# EAGLE library part LT1763 (library MDB_HOMEBAK)
500mA, Low Noise, LDO Micropower Regulators Source: http://cds.linear.com/docs/Datasheet/1763ff.pdf
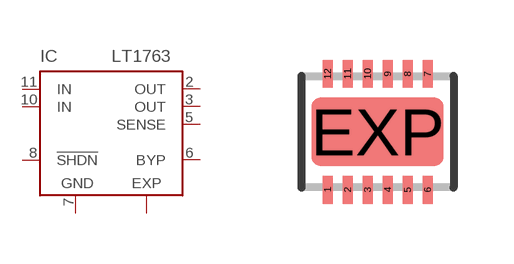
[diagram p25: symbol with the pads of DFN12; footprint DFN12]

Designator prefix IC

## LT1763CDE (MPN: LT1763CDE; OC_FARNELL: 1273613; OC_NEWARK: 57M6014), LT1763CDE-1.5 (MPN: LT1763CDE-1.5; OC_FARNELL: unknown; OC_NEWARK: 57M6015), LT1763CDE-1.8 (MPN: LT1763CDE-1.8; OC_FARNELL: unknown; OC_NEWARK: 57M6019), LT1763CDE-2.5 (MPN: LT1763CDE-2.5; OC_FARNELL: unknown; OC_NEWARK: 57M6023), LT1763CDE-3 (MPN: LT1763CDE-3; OC_FARNELL: unknown; OC_NEWARK: 57M6027), LT1763CDE-3.3 (MPN: LT1763CDE-3.3; OC_FARNELL: unknown; OC_NEWARK: 57M6028), LT1763CDE-5 (MPN: LT1763CDE-5; OC_FARNELL: 1556468; OC_NEWARK: 57M6035), LT1763IDE (MPN: LT1763IDE#PBF; OC_FARNELL: 1839216; OC_NEWARK: 51R1532), LT1763IDE-1.5 (MPN: LT1763IDE-1.5#PBF; OC_FARNELL: 1783317; OC_NEWARK: 51R1526), LT1763IDE-1.8 (MPN: LT1763IDE-1.8#PBF; OC_FARNELL: 1783318; OC_NEWARK: 51R1527), LT1763IDE-2.5 (MPN: LT1763IDE-2.5#PBF; OC_FARNELL: 1783319; OC_NEWARK: 51R1528), LT1763IDE-3 (MPN: LT1763IDE-3#PBF; OC_FARNELL: 1839220; OC_NEWARK: 51R1530), LT1763IDE-3.3 (MPN: LT1763IDE-3.3#PBF; OC_FARNELL: 1783320; OC_NEWARK: 51R1529), LT1763IDE-5 (MPN: LT1763IDE-5#PBF; OC_FARNELL: 1839222; OC_NEWARK: 51R1531)  [DFN12]
2  OUT  pas
3  OUT  pas
5  SENSE  in
6  BYP  in
7  GND  pwr
8  !SHDN  in
10  IN  in
11  IN  in
EXP  EXP  pwr

## Footprint DFN12 (pad centres in mm)
DE/UE Package 12-Lead Plastic DFN (4mm × 3mm) Source: http://cds.linear.com/docs/Datasheet/1763ff.pdf
smd 0.25 x 0.7: 1 -1.25,-1.45; 2 -0.75,-1.45; 3 -0.25,-1.45; 4 0.25,-1.45; 5 0.75,-1.45; 6 1.25,-1.45; 7 1.25,1.45; 8 0.75,1.45; 9 0.25,1.45; 10 -0.25,1.45; 11 -0.75,1.45; 12 -1.25,1.45
smd 3.3 x 1.7: EXP 0,0